# Altium schematic symbol library SKY13418-485LF.SchLib: 1 symbol
Pins are listed as number, name and electrical type; pins without a type are passive.

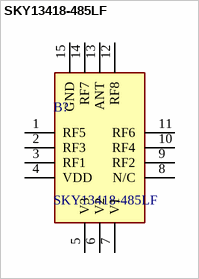
[diagram p0: symbol SKY13418-485LF]

## SKY13418-485LF
designator B?
RF Switch ICs 100-3000MHz SP8T IL .45dB Iso >31dB; Manufacturer_Name: Skyworks; Geometry.Height: 0.6mm; Mouser Part Number: 873-SKY13418-485LF; Mouser Price/Stock: https://www.mouser.co.uk/ProductDetail/Skyworks-Solutions-Inc/SKY13418-485LF?qs=aD6bdfC8ElNmIkWKGXNfog%3D%3D; Manufacturer_Part_Number: SKY13418-485LF; Datasheet Link: https://www.skyworksinc.com/-/media/SkyWorks/Documents/Products/701-800/SKY13418_485LF_201712F.pdf
footprint SKY13418485LF
pins: 1 RF5, 2 RF3, 3 RF1, 4 VDD, 5 V3, 6 V2, 7 V1, 8 N/C, 9 RF2, 10 RF4, 11 RF6, 12 RF8, 13 ANT, 14 RF7, 15 GND